# EAGLE library part VENUS6_GPS_11058 (library bt)
Venus GPS with SMA Connector Sparkfun sku: GPS-11058 <http://www.sparkfun.com/products/11058> Latest version of our Venus GPS board; the smallest, most powerful, and most versatile GPS receiver we carry. It's based on the Venus638FLPx, the successor to the Venus634LPx. The Venus638FLPx outputs standard NMEA-0183 or SkyTraq Binary sentences at a default rate of 9600bps (adjustable to 115200bps), with update rates up to 20Hz! The Venus638FLPx also allows for limited on-chip logging (check out the firmware below), as well as external logging using a SPI flash memory chip (not included).
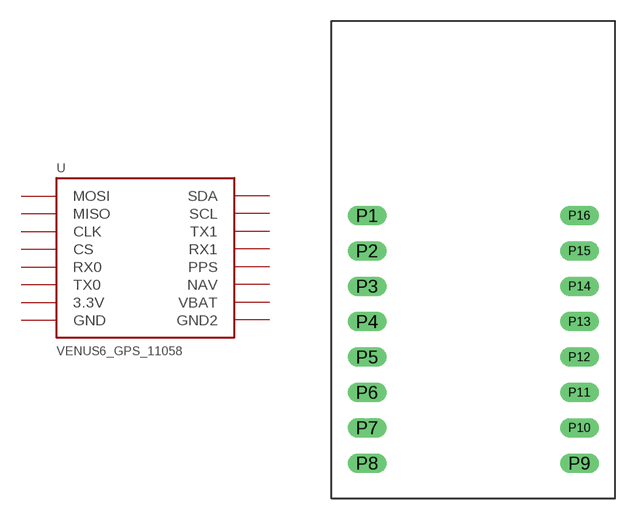
[diagram p7: symbol with the pads of VENUS6; footprint VENUS6]

Designator prefix -

## VENUS6_GPS_11058  [VENUS6]
P1  MOSI
P2  MISO
P3  CLK
P4  CS
P5  RX0
P6  TX0
P7  3.3V
P8  GND
P9  GND2
P10  VBAT
P11  NAV
P12  PPS
P13  RX1
P14  TX1
P15  SCL
P16  SDA

## Footprint VENUS6 (pad centres in mm)
drill 0.9 long: P1 -7.62,8.89; P2 -7.62,6.35; P3 -7.62,3.81; P4 -7.62,1.27; P5 -7.62,-1.27; P6 -7.62,-3.81; P7 -7.62,-6.35; P8 -7.62,-8.89; P9 7.62,-8.89; P10 7.62,-6.35; P11 7.62,-3.81; P12 7.62,-1.27; P13 7.62,1.27; P14 7.62,3.81; P15 7.62,6.35; P16 7.62,8.89